# Altium footprint library SOT363_6pin-STD.PcbLib: 1 footprints
Each footprint in its own frame and in the unit in brackets; x right, y up, seen from the top. Pads: shape width x height; smd on the part's side, far side on the other; paste and mask are expansions set on the pad; w line width, h text height; cw(c..) or ccw(c..) is an arc to the next point about the centre after c.
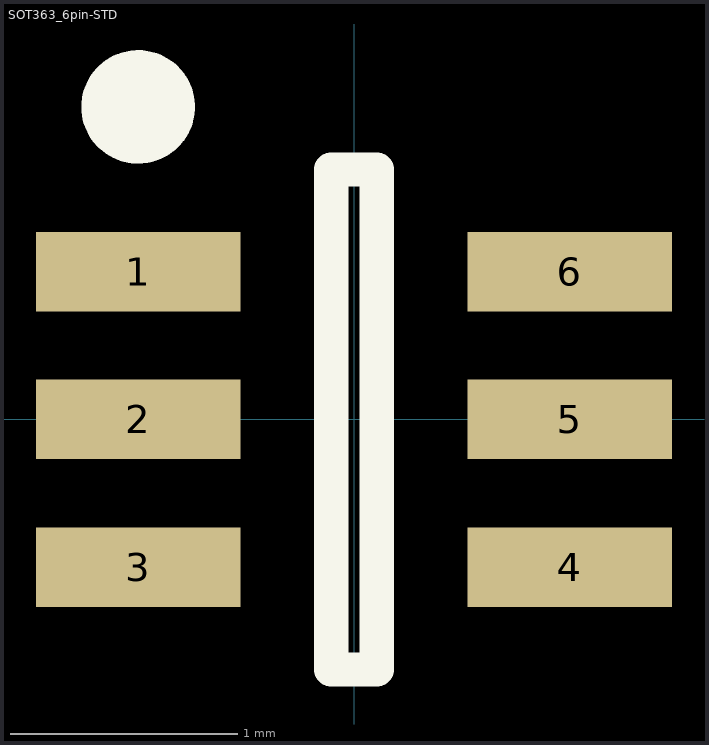
[diagram p0: the footprint, top view; thin cyan lines are the x and y axes]

## SOT363_6pin-STD [mm] "SOT363, 6-Leads,Pitch 0,65mm, IPC Medium Density"
height 1.1
pads (6):
  rect 0.9x0.35 smd: 1(-0.95,0.65) 2(-0.95,0) 3(-0.95,-0.65) 4(0.95,-0.65) 5(0.95,0) 6(0.95,0.65)
Top Overlay:
  circle w0.25: c-0.95,1.375 r0.125
  lines w0.15: -0.1,-1.1 -0.1,1.1 0.1,1.1 0.1,-1.1 -0.1,-1.1
3D body: height 1.1, standoff 0, extent -1.175,-1.092 1.225,1.108